# EAGLE library part IMA-1000 (library IMA_power_supply)
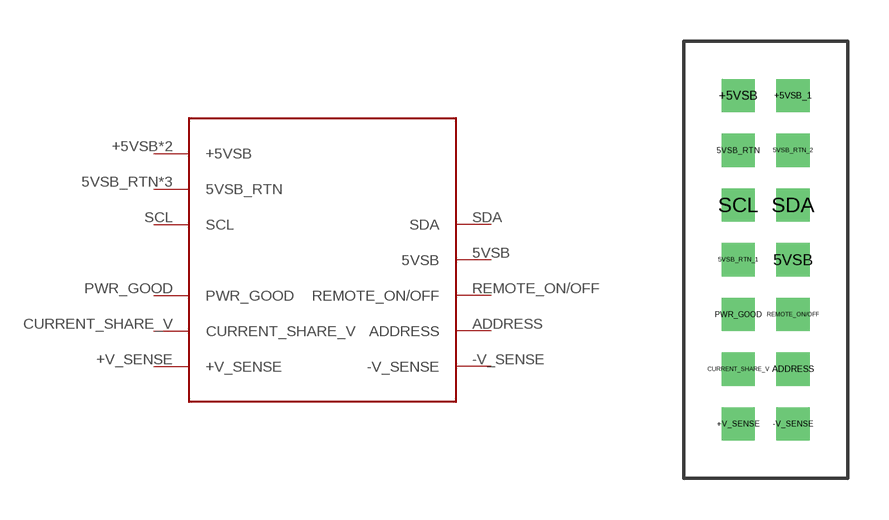
[diagram p0: symbol with the pads of IMA_14_PIN; footprint IMA_14_PIN]

Designator prefix -

## IMA-1000  [IMA_14_PIN]
5VSB  5VSB
5VSB_RTN  5VSB_RTN
5VSB_RTN_1  5VSB_RTN
5VSB_RTN_2  5VSB_RTN
+5VSB  +5VSB
+5VSB_1  +5VSB
+V_SENSE  +V_SENSE
-V_SENSE  -V_SENSE
ADDRESS  ADDRESS
CURRENT_SHARE_V  CURRENT_SHARE_V
PWR_GOOD  PWR_GOOD
REMOTE_ON/OFF  REMOTE_ON/OFF
SCL  SCL
SDA  SDA

## Footprint IMA_14_PIN (pad centres in mm)
drill 0.71 square: 5VSB 1,0; 5VSB_RTN -1,4; 5VSB_RTN_1 -1,0; 5VSB_RTN_2 1,4; +5VSB -1,6; +5VSB_1 1,6; +V_SENSE -1,-6; -V_SENSE 1,-6; ADDRESS 1,-4; CURRENT_SHARE_V -1,-4; PWR_GOOD -1,-2; REMOTE_ON/OFF 1,-2; SCL -1,2; SDA 1,2